# Altium integrated library Linear Technology Power Management Power Control.IntLib: 661 symbols (part 18 of 43)
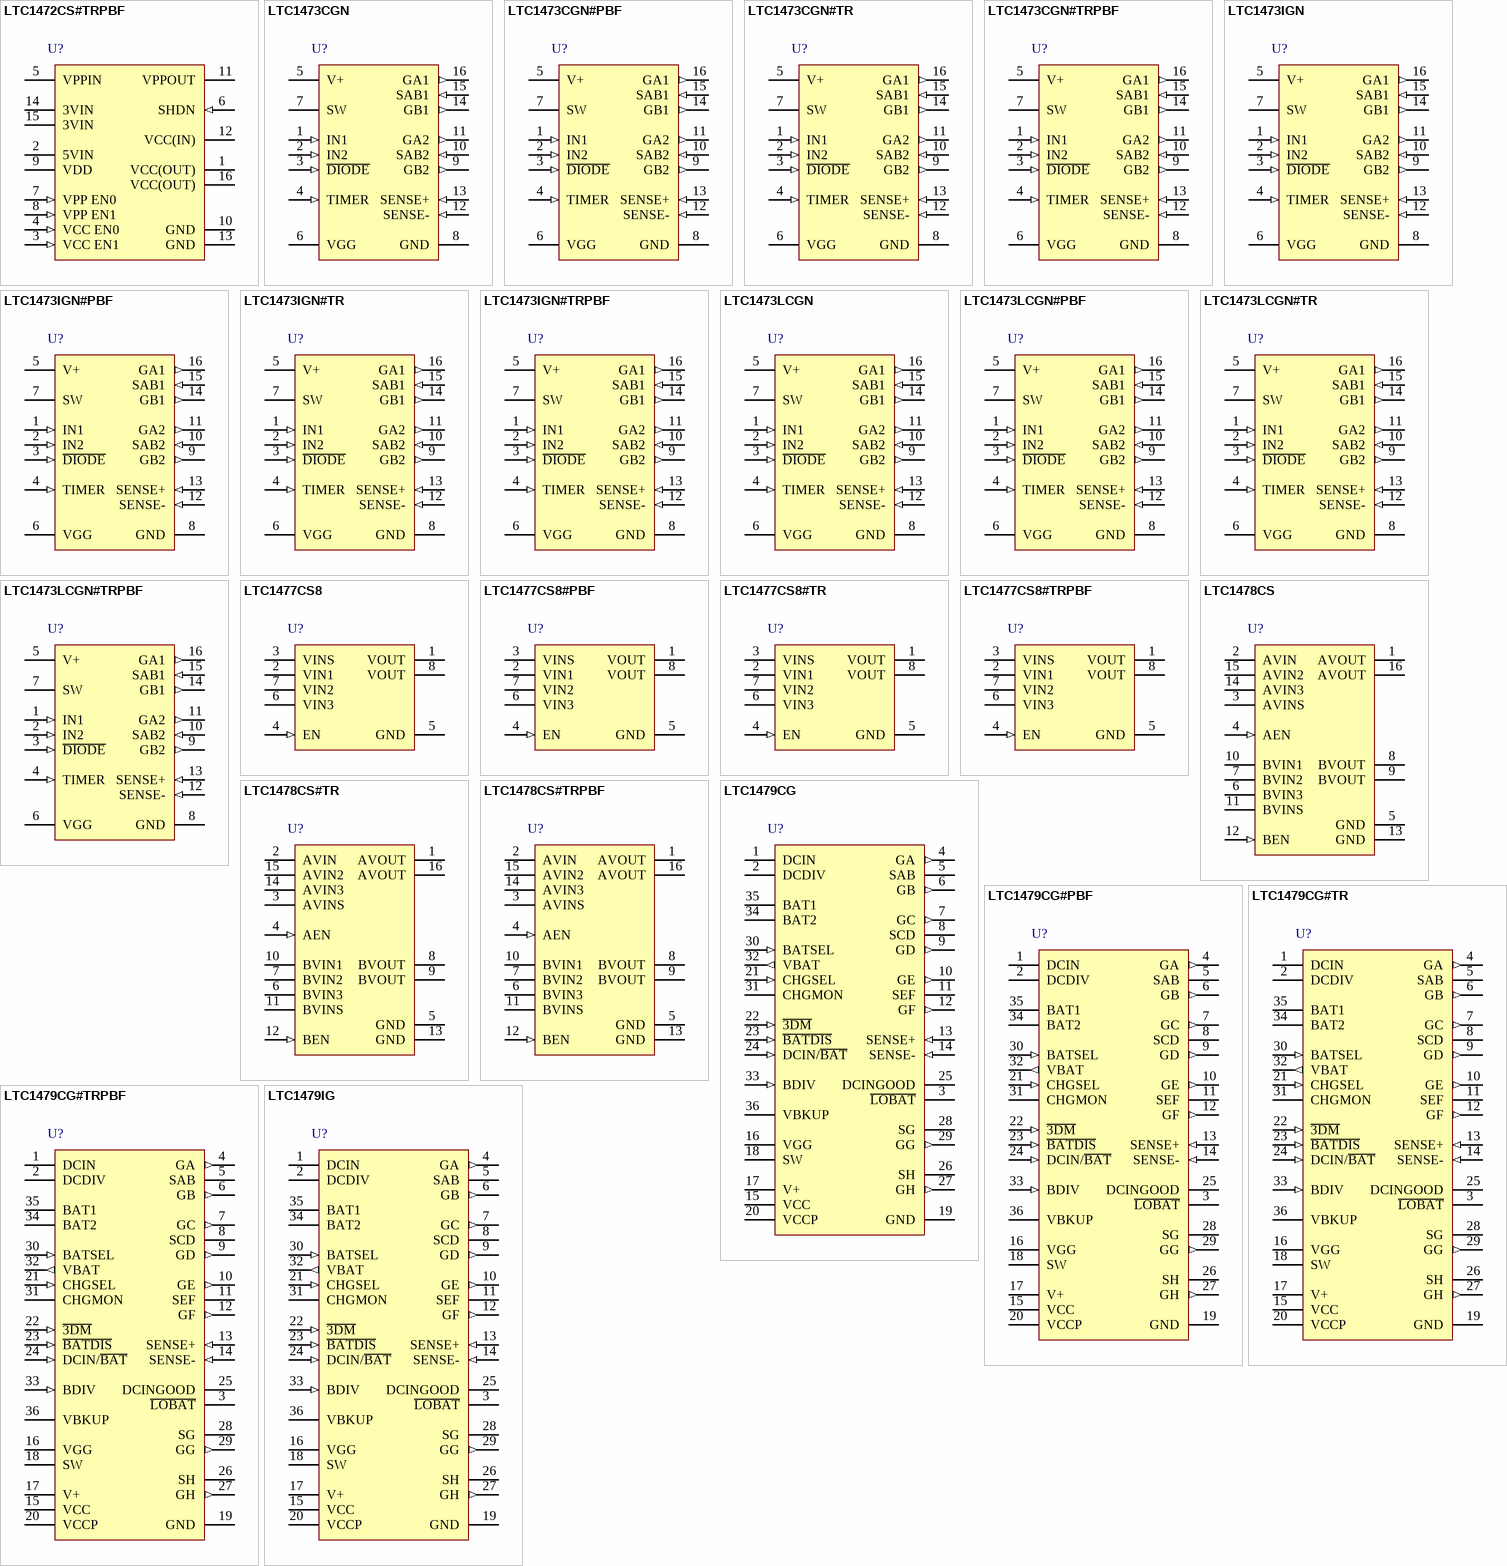
[diagram p36: symbols LTC1472CS#TRPBF to LTC1479IG]

## LTC1473IGN#TRPBF
designator U?
Dual, High Gate Drive, 4.75 to 30 V Vin, 16-pin SOP (GN-16), -40 to 85 degC, Pb-Free, Tape and Reel; Manufacturer: Linear Technology; PartNumber: LTC1473IGN#TRPBF; Ideal Diode: Dual, External, N-Channel; DatasheetVersion: Rev. A; PackageVersion: Rev. B, 03/2012; PackageReference: GN-16; PackageDescription: 16-Pin Plastic SSOP, Body 4.9 x 3.9 mm, Pitch 0.635 mm; Supplier 1: Digi-Key; Supplier Part Number 1: LTC1473IGN#TRPBF-ND; Supplier 2: Newark; Supplier Part Number 2: 56M1467; Packing: Tape and Reel; RoHS: TRUE; Mounting Technology: Surface Mount; ComponentLink1Description: Manufacturer URL; ComponentLink1URL: http://www.linear.com/; ComponentLink2Description: Datasheet; ComponentLink2URL: http://cds.linear.com/docs/en/datasheet/1473fas.pdf; ComponentLink3Description: Package Specification; ComponentLink3URL: http://cds.linear.com/docs/en/packaging/05081641_B_GN16.pdf
footprint LT-GN-16_N (SOP, 16-Leads, Body 5x4mm, Pitch 0.635mm, IPC Medium Density)
footprint LT-GN-16_L (SOP, 16-Leads, Body 5x4mm, Pitch 0.635mm, IPC High Density)
footprint LT-GN-16_M (SOP, 16-Leads, Body 5x4mm, Pitch 0.635mm, IPC Low Density)
pins: 1 IN1 (in) "Logic Input of Gate Drivers GA1 and GB1. IN1 is disabled when IN2 is high or D\I\O\D\E\ is low.", 2 IN2 (in) "Logic Input of Gate Drivers GA2 and GB2. IN2 is disabled when IN1 is high or D\I\O\D\E\ is low.", 3 ~{DIODE} (in) ""2-Diode Mode" Logic Input. D\I\O\D\E\ overrides IN1 and IN2 by forcing the two back-to-back external N-channel MOSFET switches to mimic two diodes.", 4 TIMER (in) "Fault Timer. A capacitor connected from this pin to GND programs the time the MOSFET switches are allowed to be in current limit. To disable this function, Pin 4 can be grounded.", 5 V+ (power) "Power Supply. Bypass this pin with at least a 1uF capacitor.", 6 VGG (power) "Gate Driver Supply. This high voltage supply is intended only for driving the internal micropower gate drive circuitry. Do not load this pin with any external circuitry. Bypass this pin with at least 1uF.", 7 SW "Open Drain of an Internal N-Channel MOSFET Switch. This pin drives the bottom of the VGG switching regulator inductor which is connected between this pin and the V+ pin.", 8 GND (power) "Ground.", 9 GB2 (out) "Switch Gate Drivers. GA2 and GB2 drive the gates of the second back-to-back external N-channel switches.", 10 SAB2 (in) "Source Return. The SAB2 pin is connected to the sources of SW A2 and SW B2. A small pull-down current source returns this node to 0V when the switches are turned off.", 11 GA2 (out) "Switch Gate Drivers. GA2 and GB2 drive the gates of the second back-to-back external N-channel switches.", 12 SENSE- (in) "Inrush Current Input. This pin should be connected directly to the bottom (output side) of the low valued resistor in series with the two input power selector switch pairs, SW A1/B1 and SW A2/B2, for detecting and (See Datasheet)", 13 SENSE+ (in) "Inrush Current Input. This pin should be connected directly to the top (switch side) of the low valued resistor in series with the two input power selector switch pairs, SW A1/B1 and SW A2/B2, for detecting and controlling (See Datasheet)", 14 GB1 (out) "Switch Gate Drivers. GA1 and GB1 drive the gates of the first back-to-back external N-channel switches.", 15 SAB1 (in) "Source Return. The SAB1 pin is connected to the sources of SW A1 and SW B1. A small pull-down current source returns this node to 0V when the switches are turned off.", 16 GA1 (out) "Switch Gate Drivers. GA1 and GB1 drive the gates of the first back-to-back external N-channel switches."

## LTC1473LCGN
designator U?
Dual Low Voltage PowerPath Switch Driver, 4.75 to 30 V Vin, 16-pin SOP (GN-16), 0 to 70 degC; Manufacturer: Linear Technology; PartNumber: LTC1473LCGN; Ideal Diode: Dual, External, N-Channel; PackageVersion: Rev. B, 03/2012; PackageReference: GN-16; PackageDescription: 16-Pin Plastic SSOP, Body 4.9 x 3.9 mm, Pitch 0.635 mm; Supplier 1: Digi-Key; Supplier Part Number 1: LTC1473LCGN-ND; RoHS: FALSE; Mounting Technology: Surface Mount; ComponentLink1Description: Manufacturer URL; ComponentLink1URL: http://www.linear.com/; ComponentLink2Description: Datasheet; ComponentLink2URL: http://cds.linear.com/docs/en/datasheet/1473lf.pdf; ComponentLink3Description: Package Specification; ComponentLink3URL: http://cds.linear.com/docs/en/packaging/05081641_B_GN16.pdf
footprint LT-GN-16_N (SOP, 16-Leads, Body 5x4mm, Pitch 0.635mm, IPC Medium Density)
footprint LT-GN-16_L (SOP, 16-Leads, Body 5x4mm, Pitch 0.635mm, IPC High Density)
footprint LT-GN-16_M (SOP, 16-Leads, Body 5x4mm, Pitch 0.635mm, IPC Low Density)
pins: 1 IN1 (in) "Logic Input of Gate Drivers GA1 and GB1. IN1 is disabled when IN2 is high or D\I\O\D\E\ is low.", 2 IN2 (in) "Logic Input of Gate Drivers GA2 and GB2. IN2 is disabled when IN1 is high or D\I\O\D\E\ is low.", 3 ~{DIODE} (in) ""2-Diode Mode" Logic Input. D\I\O\D\E\ overrides IN1 and IN2 by forcing the two back-to-back external N-channel MOSFET switches to mimic two diodes.", 4 TIMER (in) "Fault Timer. A capacitor connected from this pin to GND programs the time the MOSFET switches are allowed to be in current limit. To disable this function, Pin 4 can be grounded.", 5 V+ (power) "Power Supply. Bypass this pin with at least a 1uF capacitor.", 6 VGG (power) "Gate Driver Supply. This high voltage supply is intended only for driving the internal micropower gate drive circuitry. Do not load this pin with any external circuitry. Bypass this pin with at least 1uF.", 7 SW "Open Drain of an Internal N-Channel MOSFET Switch. This pin drives the bottom of the VGG switching regulator inductor which is connected between this pin and the V+ pin.", 8 GND (power) "Ground.", 9 GB2 (out) "Switch Gate Drivers. GA2 and GB2 drive the gates of the second back-to-back external N-channel switches.", 10 SAB2 (in) "Source Return. The SAB2 pin is connected to the sources of SW A2 and SW B2. A small pull-down current source returns this node to 0V when the switches are turned off.", 11 GA2 (out) "Switch Gate Drivers. GA2 and GB2 drive the gates of the second back-to-back external N-channel switches.", 12 SENSE- (in) "Inrush Current Input. This pin should be connected directly to the bottom (output side) of the low valued resistor in series with the two input power selector switch pairs, SW A1/B1 and SW A2/B2, for detecting and (See Datasheet)", 13 SENSE+ (in) "Inrush Current Input. This pin should be connected directly to the top (switch side) of the low valued resistor in series with the two input power selector switch pairs, SW A1/B1 and SW A2/B2, for detecting and controlling (See Datasheet)", 14 GB1 (out) "Switch Gate Drivers. GA1 and GB1 drive the gates of the first back-to-back external N-channel switches.", 15 SAB1 (in) "Source Return. The SAB1 pin is connected to the sources of SW A1 and SW B1. A small pull-down current source returns this node to 0V when the switches are turned off.", 16 GA1 (out) "Switch Gate Drivers. GA1 and GB1 drive the gates of the first back-to-back external N-channel switches."

## LTC1473LCGN#PBF
designator U?
Dual Low Voltage PowerPath Switch Driver, 4.75 to 30 V Vin, 16-pin SOP (GN-16), 0 to 70 degC, Pb-Free; Manufacturer: Linear Technology; PartNumber: LTC1473LCGN#PBF; Ideal Diode: Dual, External, N-Channel; PackageVersion: Rev. B, 03/2012; PackageReference: GN-16; PackageDescription: 16-Pin Plastic SSOP, Body 4.9 x 3.9 mm, Pitch 0.635 mm; Supplier 1: Digi-Key; Supplier Part Number 1: LTC1473LCGN#PBF-ND; RoHS: TRUE; Mounting Technology: Surface Mount; ComponentLink1Description: Manufacturer URL; ComponentLink1URL: http://www.linear.com/; ComponentLink2Description: Datasheet; ComponentLink2URL: http://cds.linear.com/docs/en/datasheet/1473lf.pdf; ComponentLink3Description: Package Specification; ComponentLink3URL: http://cds.linear.com/docs/en/packaging/05081641_B_GN16.pdf
footprint LT-GN-16_N (SOP, 16-Leads, Body 5x4mm, Pitch 0.635mm, IPC Medium Density)
footprint LT-GN-16_L (SOP, 16-Leads, Body 5x4mm, Pitch 0.635mm, IPC High Density)
footprint LT-GN-16_M (SOP, 16-Leads, Body 5x4mm, Pitch 0.635mm, IPC Low Density)
pins: 1 IN1 (in) "Logic Input of Gate Drivers GA1 and GB1. IN1 is disabled when IN2 is high or D\I\O\D\E\ is low.", 2 IN2 (in) "Logic Input of Gate Drivers GA2 and GB2. IN2 is disabled when IN1 is high or D\I\O\D\E\ is low.", 3 ~{DIODE} (in) ""2-Diode Mode" Logic Input. D\I\O\D\E\ overrides IN1 and IN2 by forcing the two back-to-back external N-channel MOSFET switches to mimic two diodes.", 4 TIMER (in) "Fault Timer. A capacitor connected from this pin to GND programs the time the MOSFET switches are allowed to be in current limit. To disable this function, Pin 4 can be grounded.", 5 V+ (power) "Power Supply. Bypass this pin with at least a 1uF capacitor.", 6 VGG (power) "Gate Driver Supply. This high voltage supply is intended only for driving the internal micropower gate drive circuitry. Do not load this pin with any external circuitry. Bypass this pin with at least 1uF.", 7 SW "Open Drain of an Internal N-Channel MOSFET Switch. This pin drives the bottom of the VGG switching regulator inductor which is connected between this pin and the V+ pin.", 8 GND (power) "Ground.", 9 GB2 (out) "Switch Gate Drivers. GA2 and GB2 drive the gates of the second back-to-back external N-channel switches.", 10 SAB2 (in) "Source Return. The SAB2 pin is connected to the sources of SW A2 and SW B2. A small pull-down current source returns this node to 0V when the switches are turned off.", 11 GA2 (out) "Switch Gate Drivers. GA2 and GB2 drive the gates of the second back-to-back external N-channel switches.", 12 SENSE- (in) "Inrush Current Input. This pin should be connected directly to the bottom (output side) of the low valued resistor in series with the two input power selector switch pairs, SW A1/B1 and SW A2/B2, for detecting and (See Datasheet)", 13 SENSE+ (in) "Inrush Current Input. This pin should be connected directly to the top (switch side) of the low valued resistor in series with the two input power selector switch pairs, SW A1/B1 and SW A2/B2, for detecting and controlling (See Datasheet)", 14 GB1 (out) "Switch Gate Drivers. GA1 and GB1 drive the gates of the first back-to-back external N-channel switches.", 15 SAB1 (in) "Source Return. The SAB1 pin is connected to the sources of SW A1 and SW B1. A small pull-down current source returns this node to 0V when the switches are turned off.", 16 GA1 (out) "Switch Gate Drivers. GA1 and GB1 drive the gates of the first back-to-back external N-channel switches."

## LTC1473LCGN#TR
designator U?
Dual Low Voltage PowerPath Switch Driver, 4.75 to 30 V Vin, 16-pin SOP (GN-16), 0 to 70 degC, Tape and Reel; Manufacturer: Linear Technology; PartNumber: LTC1473LCGN#TR; Ideal Diode: Dual, External, N-Channel; PackageVersion: Rev. B, 03/2012; PackageReference: GN-16; PackageDescription: 16-Pin Plastic SSOP, Body 4.9 x 3.9 mm, Pitch 0.635 mm; Supplier 1: Digi-Key; Supplier Part Number 1: LTC1473LCGN#TR-ND; Packing: Tape and Reel; RoHS: FALSE; Mounting Technology: Surface Mount; ComponentLink1Description: Manufacturer URL; ComponentLink1URL: http://www.linear.com/; ComponentLink2Description: Datasheet; ComponentLink2URL: http://cds.linear.com/docs/en/datasheet/1473lf.pdf; ComponentLink3Description: Package Specification; ComponentLink3URL: http://cds.linear.com/docs/en/packaging/05081641_B_GN16.pdf
footprint LT-GN-16_N (SOP, 16-Leads, Body 5x4mm, Pitch 0.635mm, IPC Medium Density)
footprint LT-GN-16_L (SOP, 16-Leads, Body 5x4mm, Pitch 0.635mm, IPC High Density)
footprint LT-GN-16_M (SOP, 16-Leads, Body 5x4mm, Pitch 0.635mm, IPC Low Density)
pins: 1 IN1 (in) "Logic Input of Gate Drivers GA1 and GB1. IN1 is disabled when IN2 is high or D\I\O\D\E\ is low.", 2 IN2 (in) "Logic Input of Gate Drivers GA2 and GB2. IN2 is disabled when IN1 is high or D\I\O\D\E\ is low.", 3 ~{DIODE} (in) ""2-Diode Mode" Logic Input. D\I\O\D\E\ overrides IN1 and IN2 by forcing the two back-to-back external N-channel MOSFET switches to mimic two diodes.", 4 TIMER (in) "Fault Timer. A capacitor connected from this pin to GND programs the time the MOSFET switches are allowed to be in current limit. To disable this function, Pin 4 can be grounded.", 5 V+ (power) "Power Supply. Bypass this pin with at least a 1uF capacitor.", 6 VGG (power) "Gate Driver Supply. This high voltage supply is intended only for driving the internal micropower gate drive circuitry. Do not load this pin with any external circuitry. Bypass this pin with at least 1uF.", 7 SW "Open Drain of an Internal N-Channel MOSFET Switch. This pin drives the bottom of the VGG switching regulator inductor which is connected between this pin and the V+ pin.", 8 GND (power) "Ground.", 9 GB2 (out) "Switch Gate Drivers. GA2 and GB2 drive the gates of the second back-to-back external N-channel switches.", 10 SAB2 (in) "Source Return. The SAB2 pin is connected to the sources of SW A2 and SW B2. A small pull-down current source returns this node to 0V when the switches are turned off.", 11 GA2 (out) "Switch Gate Drivers. GA2 and GB2 drive the gates of the second back-to-back external N-channel switches.", 12 SENSE- (in) "Inrush Current Input. This pin should be connected directly to the bottom (output side) of the low valued resistor in series with the two input power selector switch pairs, SW A1/B1 and SW A2/B2, for detecting and (See Datasheet)", 13 SENSE+ (in) "Inrush Current Input. This pin should be connected directly to the top (switch side) of the low valued resistor in series with the two input power selector switch pairs, SW A1/B1 and SW A2/B2, for detecting and controlling (See Datasheet)", 14 GB1 (out) "Switch Gate Drivers. GA1 and GB1 drive the gates of the first back-to-back external N-channel switches.", 15 SAB1 (in) "Source Return. The SAB1 pin is connected to the sources of SW A1 and SW B1. A small pull-down current source returns this node to 0V when the switches are turned off.", 16 GA1 (out) "Switch Gate Drivers. GA1 and GB1 drive the gates of the first back-to-back external N-channel switches."

## LTC1473LCGN#TRPBF
designator U?
Dual Low Voltage PowerPath Switch Driver, 4.75 to 30 V Vin, 16-pin SOP (GN-16), 0 to 70 degC, Pb-Free, Tape and Reel; Manufacturer: Linear Technology; PartNumber: LTC1473LCGN#TRPBF; Ideal Diode: Dual, External, N-Channel; PackageVersion: Rev. B, 03/2012; PackageReference: GN-16; PackageDescription: 16-Pin Plastic SSOP, Body 4.9 x 3.9 mm, Pitch 0.635 mm; Supplier 1: Digi-Key; Supplier Part Number 1: LTC1473LCGN#TRPBF-ND; Packing: Tape and Reel; RoHS: TRUE; Mounting Technology: Surface Mount; ComponentLink1Description: Manufacturer URL; ComponentLink1URL: http://www.linear.com/; ComponentLink2Description: Datasheet; ComponentLink2URL: http://cds.linear.com/docs/en/datasheet/1473lf.pdf; ComponentLink3Description: Package Specification; ComponentLink3URL: http://cds.linear.com/docs/en/packaging/05081641_B_GN16.pdf
footprint LT-GN-16_N (SOP, 16-Leads, Body 5x4mm, Pitch 0.635mm, IPC Medium Density)
footprint LT-GN-16_L (SOP, 16-Leads, Body 5x4mm, Pitch 0.635mm, IPC High Density)
footprint LT-GN-16_M (SOP, 16-Leads, Body 5x4mm, Pitch 0.635mm, IPC Low Density)
pins: 1 IN1 (in) "Logic Input of Gate Drivers GA1 and GB1. IN1 is disabled when IN2 is high or D\I\O\D\E\ is low.", 2 IN2 (in) "Logic Input of Gate Drivers GA2 and GB2. IN2 is disabled when IN1 is high or D\I\O\D\E\ is low.", 3 ~{DIODE} (in) ""2-Diode Mode" Logic Input. D\I\O\D\E\ overrides IN1 and IN2 by forcing the two back-to-back external N-channel MOSFET switches to mimic two diodes.", 4 TIMER (in) "Fault Timer. A capacitor connected from this pin to GND programs the time the MOSFET switches are allowed to be in current limit. To disable this function, Pin 4 can be grounded.", 5 V+ (power) "Power Supply. Bypass this pin with at least a 1uF capacitor.", 6 VGG (power) "Gate Driver Supply. This high voltage supply is intended only for driving the internal micropower gate drive circuitry. Do not load this pin with any external circuitry. Bypass this pin with at least 1uF.", 7 SW "Open Drain of an Internal N-Channel MOSFET Switch. This pin drives the bottom of the VGG switching regulator inductor which is connected between this pin and the V+ pin.", 8 GND (power) "Ground.", 9 GB2 (out) "Switch Gate Drivers. GA2 and GB2 drive the gates of the second back-to-back external N-channel switches.", 10 SAB2 (in) "Source Return. The SAB2 pin is connected to the sources of SW A2 and SW B2. A small pull-down current source returns this node to 0V when the switches are turned off.", 11 GA2 (out) "Switch Gate Drivers. GA2 and GB2 drive the gates of the second back-to-back external N-channel switches.", 12 SENSE- (in) "Inrush Current Input. This pin should be connected directly to the bottom (output side) of the low valued resistor in series with the two input power selector switch pairs, SW A1/B1 and SW A2/B2, for detecting and (See Datasheet)", 13 SENSE+ (in) "Inrush Current Input. This pin should be connected directly to the top (switch side) of the low valued resistor in series with the two input power selector switch pairs, SW A1/B1 and SW A2/B2, for detecting and controlling (See Datasheet)", 14 GB1 (out) "Switch Gate Drivers. GA1 and GB1 drive the gates of the first back-to-back external N-channel switches.", 15 SAB1 (in) "Source Return. The SAB1 pin is connected to the sources of SW A1 and SW B1. A small pull-down current source returns this node to 0V when the switches are turned off.", 16 GA1 (out) "Switch Gate Drivers. GA1 and GB1 drive the gates of the first back-to-back external N-channel switches."

## LTC1477CS8
designator U?
Good for Subsystem Power Switch, 7 V Vin MAX, 8-pin SOIC (S8-8), 0 to 70 degC; Manufacturer: Linear Technology; PartNumber: LTC1477CS8; PackageVersion: Rev. G, 03/2012; PackageReference: S8-8; PackageDescription: 8-Pin Plastic Small Outline (Narrow .150 Inch), Body 4.9 x 3.9 mm, Pitch 1.27 mm; Supplier 1: Digi-Key; Supplier Part Number 1: LTC1477CS8-ND; Supplier 2: Newark; Supplier Part Number 2: 56M1536; RoHS: FALSE; Mounting Technology: Surface Mount; ComponentLink1Description: Manufacturer URL; ComponentLink1URL: http://www.linear.com/; ComponentLink2Description: Datasheet; ComponentLink2URL: http://cds.linear.com/docs/en/datasheet/lt1477.pdf; ComponentLink3Description: Package Specification; ComponentLink3URL: http://cds.linear.com/docs/en/packaging/05081610_G_SO8.pdf
footprint LT-S8-8_N (SOIC, 8-Leads, Body 5x4mm, Pitch 1.27mm, IPC Medium Density)
footprint LT-S8-8_L (SOIC, 8-Leads, Body 5x4mm, Pitch 1.27mm, IPC High Density)
footprint LT-S8-8_M (SOIC, 8-Leads, Body 5x4mm, Pitch 1.27mm, IPC Low Density)
pins: 1 VOUT (power) "The output pins of the LTC1477 must always be tied together. The output is protected against accidental short circuits to ground by a current limit circuit which protects the system power supply and load against damage. A (See Datasheet)", 2 VIN1 (power) "The VINS supply pin must always be connected to the VIN1 supply pin (see Block Diagram). The VINS supply pin provides power for the input control logic, the current limit and thermal shutdown circuitry; plus provides a sense (See Datasheet)", 3 VINS (power) "The VINS supply pin must always be connected to the VIN1 supply pin (see Block Diagram). The VINS supply pin provides power for the input control logic, the current limit and thermal shutdown circuitry; plus provides a sense (See Datasheet)", 4 EN (in) "The enable input is a high impedance CMOS gate with an ESD protection diode to ground and should not be forced below ground. This input has about 100mV of built-in hysteresis to ensure clean switching.", 5 GND (power) "Ground Connection.", 6 VIN3 (power) "The VIN2 and VIN3 supply pins are typically tied to the VINS and VIN1 supply pins for lowest ON resistance; i.e., when all four VIN pins are connected together the entire power device is connected (see Block Diagram). Each (See Datasheet)", 7 VIN2 (power) "The VIN2 and VIN3 supply pins are typically tied to the VINS and VIN1 supply pins for lowest ON resistance; i.e., when all four VIN pins are connected together the entire power device is connected (see Block Diagram). Each (See Datasheet)", 8 VOUT (power) "The output pins of the LTC1477 must always be tied together. The output is protected against accidental short circuits to ground by a current limit circuit which protects the system power supply and load against damage. A (See Datasheet)"

## LTC1477CS8#PBF
designator U?
Good for Subsystem Power Switch, 7 V Vin MAX, 8-pin SOIC (S8-8), 0 to 70 degC, Pb-Free; Manufacturer: Linear Technology; PartNumber: LTC1477CS8#PBF; PackageVersion: Rev. G, 03/2012; PackageReference: S8-8; PackageDescription: 8-Pin Plastic Small Outline (Narrow .150 Inch), Body 4.9 x 3.9 mm, Pitch 1.27 mm; Supplier 1: Digi-Key; Supplier Part Number 1: LTC1477CS8#PBF-ND; Supplier 2: Farnell; Supplier Part Number 2: 1663632; Supplier 3: Newark; Supplier Part Number 3: 56M1537; RoHS: TRUE; Mounting Technology: Surface Mount; ComponentLink1Description: Manufacturer URL; ComponentLink1URL: http://www.linear.com/; ComponentLink2Description: Datasheet; ComponentLink2URL: http://cds.linear.com/docs/en/datasheet/lt1477.pdf; ComponentLink3Description: Package Specification; ComponentLink3URL: http://cds.linear.com/docs/en/packaging/05081610_G_SO8.pdf
footprint LT-S8-8_N (SOIC, 8-Leads, Body 5x4mm, Pitch 1.27mm, IPC Medium Density)
footprint LT-S8-8_L (SOIC, 8-Leads, Body 5x4mm, Pitch 1.27mm, IPC High Density)
footprint LT-S8-8_M (SOIC, 8-Leads, Body 5x4mm, Pitch 1.27mm, IPC Low Density)
pins: 1 VOUT (power) "The output pins of the LTC1477 must always be tied together. The output is protected against accidental short circuits to ground by a current limit circuit which protects the system power supply and load against damage. A (See Datasheet)", 2 VIN1 (power) "The VINS supply pin must always be connected to the VIN1 supply pin (see Block Diagram). The VINS supply pin provides power for the input control logic, the current limit and thermal shutdown circuitry; plus provides a sense (See Datasheet)", 3 VINS (power) "The VINS supply pin must always be connected to the VIN1 supply pin (see Block Diagram). The VINS supply pin provides power for the input control logic, the current limit and thermal shutdown circuitry; plus provides a sense (See Datasheet)", 4 EN (in) "The enable input is a high impedance CMOS gate with an ESD protection diode to ground and should not be forced below ground. This input has about 100mV of built-in hysteresis to ensure clean switching.", 5 GND (power) "Ground Connection.", 6 VIN3 (power) "The VIN2 and VIN3 supply pins are typically tied to the VINS and VIN1 supply pins for lowest ON resistance; i.e., when all four VIN pins are connected together the entire power device is connected (see Block Diagram). Each (See Datasheet)", 7 VIN2 (power) "The VIN2 and VIN3 supply pins are typically tied to the VINS and VIN1 supply pins for lowest ON resistance; i.e., when all four VIN pins are connected together the entire power device is connected (see Block Diagram). Each (See Datasheet)", 8 VOUT (power) "The output pins of the LTC1477 must always be tied together. The output is protected against accidental short circuits to ground by a current limit circuit which protects the system power supply and load against damage. A (See Datasheet)"

## LTC1477CS8#TR
designator U?
Good for Subsystem Power Switch, 7 V Vin MAX, 8-pin SOIC (S8-8), 0 to 70 degC, Tape and Reel; Manufacturer: Linear Technology; PartNumber: LTC1477CS8#TR; PackageVersion: Rev. G, 03/2012; PackageReference: S8-8; PackageDescription: 8-Pin Plastic Small Outline (Narrow .150 Inch), Body 4.9 x 3.9 mm, Pitch 1.27 mm; Supplier 1: Digi-Key; Supplier Part Number 1: LTC1477CS8#TR-ND; Packing: Tape and Reel; RoHS: FALSE; Mounting Technology: Surface Mount; ComponentLink1Description: Manufacturer URL; ComponentLink1URL: http://www.linear.com/; ComponentLink2Description: Datasheet; ComponentLink2URL: http://cds.linear.com/docs/en/datasheet/lt1477.pdf; ComponentLink3Description: Package Specification; ComponentLink3URL: http://cds.linear.com/docs/en/packaging/05081610_G_SO8.pdf
footprint LT-S8-8_N (SOIC, 8-Leads, Body 5x4mm, Pitch 1.27mm, IPC Medium Density)
footprint LT-S8-8_L (SOIC, 8-Leads, Body 5x4mm, Pitch 1.27mm, IPC High Density)
footprint LT-S8-8_M (SOIC, 8-Leads, Body 5x4mm, Pitch 1.27mm, IPC Low Density)
pins: 1 VOUT (power) "The output pins of the LTC1477 must always be tied together. The output is protected against accidental short circuits to ground by a current limit circuit which protects the system power supply and load against damage. A (See Datasheet)", 2 VIN1 (power) "The VINS supply pin must always be connected to the VIN1 supply pin (see Block Diagram). The VINS supply pin provides power for the input control logic, the current limit and thermal shutdown circuitry; plus provides a sense (See Datasheet)", 3 VINS (power) "The VINS supply pin must always be connected to the VIN1 supply pin (see Block Diagram). The VINS supply pin provides power for the input control logic, the current limit and thermal shutdown circuitry; plus provides a sense (See Datasheet)", 4 EN (in) "The enable input is a high impedance CMOS gate with an ESD protection diode to ground and should not be forced below ground. This input has about 100mV of built-in hysteresis to ensure clean switching.", 5 GND (power) "Ground Connection.", 6 VIN3 (power) "The VIN2 and VIN3 supply pins are typically tied to the VINS and VIN1 supply pins for lowest ON resistance; i.e., when all four VIN pins are connected together the entire power device is connected (see Block Diagram). Each (See Datasheet)", 7 VIN2 (power) "The VIN2 and VIN3 supply pins are typically tied to the VINS and VIN1 supply pins for lowest ON resistance; i.e., when all four VIN pins are connected together the entire power device is connected (see Block Diagram). Each (See Datasheet)", 8 VOUT (power) "The output pins of the LTC1477 must always be tied together. The output is protected against accidental short circuits to ground by a current limit circuit which protects the system power supply and load against damage. A (See Datasheet)"

## LTC1477CS8#TRPBF
designator U?
Good for Subsystem Power Switch, 7 V Vin MAX, 8-pin SOIC (S8-8), 0 to 70 degC, Pb-Free, Tape and Reel; Manufacturer: Linear Technology; PartNumber: LTC1477CS8#TRPBF; PackageVersion: Rev. G, 03/2012; PackageReference: S8-8; PackageDescription: 8-Pin Plastic Small Outline (Narrow .150 Inch), Body 4.9 x 3.9 mm, Pitch 1.27 mm; Supplier 1: Digi-Key; Supplier Part Number 1: LTC1477CS8#TRPBF-ND; Supplier 2: Newark; Supplier Part Number 2: 56M1539; Packing: Tape and Reel; RoHS: TRUE; Mounting Technology: Surface Mount; ComponentLink1Description: Manufacturer URL; ComponentLink1URL: http://www.linear.com/; ComponentLink2Description: Datasheet; ComponentLink2URL: http://cds.linear.com/docs/en/datasheet/lt1477.pdf; ComponentLink3Description: Package Specification; ComponentLink3URL: http://cds.linear.com/docs/en/packaging/05081610_G_SO8.pdf
footprint LT-S8-8_N (SOIC, 8-Leads, Body 5x4mm, Pitch 1.27mm, IPC Medium Density)
footprint LT-S8-8_L (SOIC, 8-Leads, Body 5x4mm, Pitch 1.27mm, IPC High Density)
footprint LT-S8-8_M (SOIC, 8-Leads, Body 5x4mm, Pitch 1.27mm, IPC Low Density)
pins: 1 VOUT (power) "The output pins of the LTC1477 must always be tied together. The output is protected against accidental short circuits to ground by a current limit circuit which protects the system power supply and load against damage. A (See Datasheet)", 2 VIN1 (power) "The VINS supply pin must always be connected to the VIN1 supply pin (see Block Diagram). The VINS supply pin provides power for the input control logic, the current limit and thermal shutdown circuitry; plus provides a sense (See Datasheet)", 3 VINS (power) "The VINS supply pin must always be connected to the VIN1 supply pin (see Block Diagram). The VINS supply pin provides power for the input control logic, the current limit and thermal shutdown circuitry; plus provides a sense (See Datasheet)", 4 EN (in) "The enable input is a high impedance CMOS gate with an ESD protection diode to ground and should not be forced below ground. This input has about 100mV of built-in hysteresis to ensure clean switching.", 5 GND (power) "Ground Connection.", 6 VIN3 (power) "The VIN2 and VIN3 supply pins are typically tied to the VINS and VIN1 supply pins for lowest ON resistance; i.e., when all four VIN pins are connected together the entire power device is connected (see Block Diagram). Each (See Datasheet)", 7 VIN2 (power) "The VIN2 and VIN3 supply pins are typically tied to the VINS and VIN1 supply pins for lowest ON resistance; i.e., when all four VIN pins are connected together the entire power device is connected (see Block Diagram). Each (See Datasheet)", 8 VOUT (power) "The output pins of the LTC1477 must always be tied together. The output is protected against accidental short circuits to ground by a current limit circuit which protects the system power supply and load against damage. A (See Datasheet)"

## LTC1478CS
designator U?
Good for Subsystem Power Switch, 7 V Vin MAX, 16-pin SOP (S-16), 0 to 70 degC; Manufacturer: Linear Technology; PartNumber: LTC1478CS; PackageVersion: Rev. G, 05/2012; PackageReference: S-16; PackageDescription: 16-Pin Plastic Small Outline, Body 9.9 x 3.9 mm, Pitch 1.27 mm; Supplier 1: Digi-Key; Supplier Part Number 1: LTC1478CS-ND; RoHS: FALSE; Mounting Technology: Surface Mount; ComponentLink1Description: Manufacturer URL; ComponentLink1URL: http://www.linear.com/; ComponentLink2Description: Datasheet; ComponentLink2URL: http://cds.linear.com/docs/en/datasheet/lt1477.pdf; ComponentLink3Description: Package Specification; ComponentLink3URL: http://cds.linear.com/docs/en/packaging/S16%2005-08-1610%20Rev%20G.pdf
footprint LT-S-16_N (SOP, 16-Leads, Body 10x4mm, Pitch 1.27mm, IPC Medium Density)
footprint LT-S-16_L (SOP, 16-Leads, Body 10x4mm, Pitch 1.27mm, IPC High Density)
footprint LT-S-16_M (SOP, 16-Leads, Body 10x4mm, Pitch 1.27mm, IPC Low Density)
pins: 1 AVOUT (power) "The outputs of the LTC1478 are protected against accidental short circuits to ground by a current limit circuit which protects the system power supplies and loads against damage. A second level of protection is provided by (See Datasheet)", 2 AVIN (power) "The AVINS or BVINS supply pin must always be connected to the AVIN1 or BVIN1 supply pin (see Block Diagram). The AVINS and BVINS supply pins provide power for the input control logic, the current limit and thermal shutdown (See Datasheet)", 3 AVINS (power) "The AVINS or BVINS supply pin must always be connected to the AVIN1 or BVIN1 supply pin (see Block Diagram). The AVINS and BVINS supply pins provide power for the input control logic, the current limit and thermal shutdown (See Datasheet)", 4 AEN (in) "The enable inputs are high impedance CMOS gates with ESD protection diodes to ground and should not be forced below ground. These inputs have about 100mV of built-in hysteresis to ensure clean switching.", 5 GND (power), 6 BVIN3 (power) "The AVIN2, AVIN3, BVIN2 and BVIN3 supply pins are typically tied to the AVINS, AVIN1, BVINS and BVIN1 supply pins for lowest ON resistance; i.e., when all four AVIN, BVIN pins are connected together the entire power device (See Datasheet)", 7 BVIN2 (power) "The AVIN2, AVIN3, BVIN2 and BVIN3 supply pins are typically tied to the AVINS, AVIN1, BVINS and BVIN1 supply pins for lowest ON resistance; i.e., when all four AVIN, BVIN pins are connected together the entire power device (See Datasheet)", 8 BVOUT (power) "The outputs of the LTC1478 are protected against accidental short circuits to ground by a current limit circuit which protects the system power supplies and loads against damage. A second level of protection is provided by (See Datasheet)", 9 BVOUT (power) "The outputs of the LTC1478 are protected against accidental short circuits to ground by a current limit circuit which protects the system power supplies and loads against damage. A second level of protection is provided by (See Datasheet)", 10 BVIN1 (power) "The AVINS or BVINS supply pin must always be connected to the AVIN1 or BVIN1 supply pin (see Block Diagram). The AVINS and BVINS supply pins provide power for the input control logic, the current limit and thermal shutdown (See Datasheet)", 11 BVINS (power) "The AVINS or BVINS supply pin must always be connected to the AVIN1 or BVIN1 supply pin (see Block Diagram). The AVINS and BVINS supply pins provide power for the input control logic, the current limit and thermal shutdown (See Datasheet)", 12 BEN (in) "The enable inputs are high impedance CMOS gates with ESD protection diodes to ground and should not be forced below ground. These inputs have about 100mV of built-in hysteresis to ensure clean switching.", 13 GND (power), 14 AVIN3 (power) "The AVIN2, AVIN3, BVIN2 and BVIN3 supply pins are typically tied to the AVINS, AVIN1, BVINS and BVIN1 supply pins for lowest ON resistance; i.e., when all four AVIN, BVIN pins are connected together the entire power device (See Datasheet)", 15 AVIN2 (power) "The AVIN2, AVIN3, BVIN2 and BVIN3 supply pins are typically tied to the AVINS, AVIN1, BVINS and BVIN1 supply pins for lowest ON resistance; i.e., when all four AVIN, BVIN pins are connected together the entire power device (See Datasheet)", 16 AVOUT (power) "The outputs of the LTC1478 are protected against accidental short circuits to ground by a current limit circuit which protects the system power supplies and loads against damage. A second level of protection is provided by (See Datasheet)"

## LTC1478CS#TR
designator U?
Good for Subsystem Power Switch, 7 V Vin MAX, 16-pin SOP (S-16), 0 to 70 degC, Tape and Reel; Manufacturer: Linear Technology; PartNumber: LTC1478CS#TR; PackageVersion: Rev. G, 05/2012; PackageReference: S-16; PackageDescription: 16-Pin Plastic Small Outline, Body 9.9 x 3.9 mm, Pitch 1.27 mm; Supplier 1: Digi-Key; Supplier Part Number 1: LTC1478CS#TR-ND; Packing: Tape and Reel; RoHS: FALSE; Mounting Technology: Surface Mount; ComponentLink1Description: Manufacturer URL; ComponentLink1URL: http://www.linear.com/; ComponentLink2Description: Datasheet; ComponentLink2URL: http://cds.linear.com/docs/en/datasheet/lt1477.pdf; ComponentLink3Description: Package Specification; ComponentLink3URL: http://cds.linear.com/docs/en/packaging/S16%2005-08-1610%20Rev%20G.pdf
footprint LT-S-16_N (SOP, 16-Leads, Body 10x4mm, Pitch 1.27mm, IPC Medium Density)
footprint LT-S-16_L (SOP, 16-Leads, Body 10x4mm, Pitch 1.27mm, IPC High Density)
footprint LT-S-16_M (SOP, 16-Leads, Body 10x4mm, Pitch 1.27mm, IPC Low Density)
pins: 1 AVOUT (power) "The outputs of the LTC1478 are protected against accidental short circuits to ground by a current limit circuit which protects the system power supplies and loads against damage. A second level of protection is provided by (See Datasheet)", 2 AVIN (power) "The AVINS or BVINS supply pin must always be connected to the AVIN1 or BVIN1 supply pin (see Block Diagram). The AVINS and BVINS supply pins provide power for the input control logic, the current limit and thermal shutdown (See Datasheet)", 3 AVINS (power) "The AVINS or BVINS supply pin must always be connected to the AVIN1 or BVIN1 supply pin (see Block Diagram). The AVINS and BVINS supply pins provide power for the input control logic, the current limit and thermal shutdown (See Datasheet)", 4 AEN (in) "The enable inputs are high impedance CMOS gates with ESD protection diodes to ground and should not be forced below ground. These inputs have about 100mV of built-in hysteresis to ensure clean switching.", 5 GND (power), 6 BVIN3 (power) "The AVIN2, AVIN3, BVIN2 and BVIN3 supply pins are typically tied to the AVINS, AVIN1, BVINS and BVIN1 supply pins for lowest ON resistance; i.e., when all four AVIN, BVIN pins are connected together the entire power device (See Datasheet)", 7 BVIN2 (power) "The AVIN2, AVIN3, BVIN2 and BVIN3 supply pins are typically tied to the AVINS, AVIN1, BVINS and BVIN1 supply pins for lowest ON resistance; i.e., when all four AVIN, BVIN pins are connected together the entire power device (See Datasheet)", 8 BVOUT (power) "The outputs of the LTC1478 are protected against accidental short circuits to ground by a current limit circuit which protects the system power supplies and loads against damage. A second level of protection is provided by (See Datasheet)", 9 BVOUT (power) "The outputs of the LTC1478 are protected against accidental short circuits to ground by a current limit circuit which protects the system power supplies and loads against damage. A second level of protection is provided by (See Datasheet)", 10 BVIN1 (power) "The AVINS or BVINS supply pin must always be connected to the AVIN1 or BVIN1 supply pin (see Block Diagram). The AVINS and BVINS supply pins provide power for the input control logic, the current limit and thermal shutdown (See Datasheet)", 11 BVINS (power) "The AVINS or BVINS supply pin must always be connected to the AVIN1 or BVIN1 supply pin (see Block Diagram). The AVINS and BVINS supply pins provide power for the input control logic, the current limit and thermal shutdown (See Datasheet)", 12 BEN (in) "The enable inputs are high impedance CMOS gates with ESD protection diodes to ground and should not be forced below ground. These inputs have about 100mV of built-in hysteresis to ensure clean switching.", 13 GND (power), 14 AVIN3 (power) "The AVIN2, AVIN3, BVIN2 and BVIN3 supply pins are typically tied to the AVINS, AVIN1, BVINS and BVIN1 supply pins for lowest ON resistance; i.e., when all four AVIN, BVIN pins are connected together the entire power device (See Datasheet)", 15 AVIN2 (power) "The AVIN2, AVIN3, BVIN2 and BVIN3 supply pins are typically tied to the AVINS, AVIN1, BVINS and BVIN1 supply pins for lowest ON resistance; i.e., when all four AVIN, BVIN pins are connected together the entire power device (See Datasheet)", 16 AVOUT (power) "The outputs of the LTC1478 are protected against accidental short circuits to ground by a current limit circuit which protects the system power supplies and loads against damage. A second level of protection is provided by (See Datasheet)"

## LTC1478CS#TRPBF
designator U?
Good for Subsystem Power Switch, 7 V Vin MAX, 16-pin SOP (S-16), 0 to 70 degC, Pb-Free, Tape and Reel; Manufacturer: Linear Technology; PartNumber: LTC1478CS#TRPBF; PackageVersion: Rev. G, 05/2012; PackageReference: S-16; PackageDescription: 16-Pin Plastic Small Outline, Body 9.9 x 3.9 mm, Pitch 1.27 mm; Supplier 1: Digi-Key; Supplier Part Number 1: LTC1478CS#TRPBF-ND; Packing: Tape and Reel; RoHS: TRUE; Mounting Technology: Surface Mount; ComponentLink1Description: Manufacturer URL; ComponentLink1URL: http://www.linear.com/; ComponentLink2Description: Datasheet; ComponentLink2URL: http://cds.linear.com/docs/en/datasheet/lt1477.pdf; ComponentLink3Description: Package Specification; ComponentLink3URL: http://cds.linear.com/docs/en/packaging/S16%2005-08-1610%20Rev%20G.pdf
footprint LT-S-16_N (SOP, 16-Leads, Body 10x4mm, Pitch 1.27mm, IPC Medium Density)
footprint LT-S-16_L (SOP, 16-Leads, Body 10x4mm, Pitch 1.27mm, IPC High Density)
footprint LT-S-16_M (SOP, 16-Leads, Body 10x4mm, Pitch 1.27mm, IPC Low Density)
pins: 1 AVOUT (power) "The outputs of the LTC1478 are protected against accidental short circuits to ground by a current limit circuit which protects the system power supplies and loads against damage. A second level of protection is provided by (See Datasheet)", 2 AVIN (power) "The AVINS or BVINS supply pin must always be connected to the AVIN1 or BVIN1 supply pin (see Block Diagram). The AVINS and BVINS supply pins provide power for the input control logic, the current limit and thermal shutdown (See Datasheet)", 3 AVINS (power) "The AVINS or BVINS supply pin must always be connected to the AVIN1 or BVIN1 supply pin (see Block Diagram). The AVINS and BVINS supply pins provide power for the input control logic, the current limit and thermal shutdown (See Datasheet)", 4 AEN (in) "The enable inputs are high impedance CMOS gates with ESD protection diodes to ground and should not be forced below ground. These inputs have about 100mV of built-in hysteresis to ensure clean switching.", 5 GND (power), 6 BVIN3 (power) "The AVIN2, AVIN3, BVIN2 and BVIN3 supply pins are typically tied to the AVINS, AVIN1, BVINS and BVIN1 supply pins for lowest ON resistance; i.e., when all four AVIN, BVIN pins are connected together the entire power device (See Datasheet)", 7 BVIN2 (power) "The AVIN2, AVIN3, BVIN2 and BVIN3 supply pins are typically tied to the AVINS, AVIN1, BVINS and BVIN1 supply pins for lowest ON resistance; i.e., when all four AVIN, BVIN pins are connected together the entire power device (See Datasheet)", 8 BVOUT (power) "The outputs of the LTC1478 are protected against accidental short circuits to ground by a current limit circuit which protects the system power supplies and loads against damage. A second level of protection is provided by (See Datasheet)", 9 BVOUT (power) "The outputs of the LTC1478 are protected against accidental short circuits to ground by a current limit circuit which protects the system power supplies and loads against damage. A second level of protection is provided by (See Datasheet)", 10 BVIN1 (power) "The AVINS or BVINS supply pin must always be connected to the AVIN1 or BVIN1 supply pin (see Block Diagram). The AVINS and BVINS supply pins provide power for the input control logic, the current limit and thermal shutdown (See Datasheet)", 11 BVINS (power) "The AVINS or BVINS supply pin must always be connected to the AVIN1 or BVIN1 supply pin (see Block Diagram). The AVINS and BVINS supply pins provide power for the input control logic, the current limit and thermal shutdown (See Datasheet)", 12 BEN (in) "The enable inputs are high impedance CMOS gates with ESD protection diodes to ground and should not be forced below ground. These inputs have about 100mV of built-in hysteresis to ensure clean switching.", 13 GND (power), 14 AVIN3 (power) "The AVIN2, AVIN3, BVIN2 and BVIN3 supply pins are typically tied to the AVINS, AVIN1, BVINS and BVIN1 supply pins for lowest ON resistance; i.e., when all four AVIN, BVIN pins are connected together the entire power device (See Datasheet)", 15 AVIN2 (power) "The AVIN2, AVIN3, BVIN2 and BVIN3 supply pins are typically tied to the AVINS, AVIN1, BVINS and BVIN1 supply pins for lowest ON resistance; i.e., when all four AVIN, BVIN pins are connected together the entire power device (See Datasheet)", 16 AVOUT (power) "The outputs of the LTC1478 are protected against accidental short circuits to ground by a current limit circuit which protects the system power supplies and loads against damage. A second level of protection is provided by (See Datasheet)"